# Altium schematic symbol library STWD100.SCHLIB: 1 symbol
Pins are listed as number, name and electrical type; pins without a type are passive.

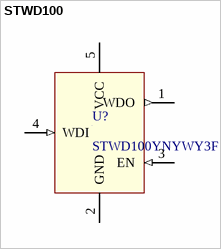
[diagram p0: symbol STWD100]

## STWD100
designator U?, comment STWD100YNYWY3F
Watchdog timer circuit
footprint Model Name (Footprint not found)
pins: 1 WDO (out), 2 GND (power), 3 EN (in), 4 WDI (in), 5 VCC (power)